# EAGLE library part ST7789 (library ME433-2021)
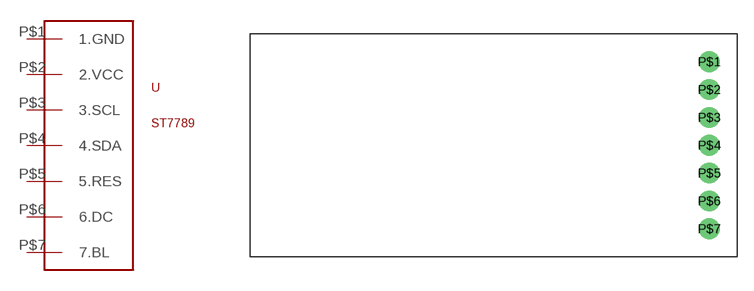
[diagram p11: symbol with the pads of ST7789; footprint ST7789]

Designator prefix -

## ST7789  [ST7789]
P$1  1.GND
P$2  2.VCC
P$3  3.SCL
P$4  4.SDA
P$5  5.RES
P$6  6.DC
P$7  7.BL

## Footprint ST7789 (pad centres in mm)
drill 1.016 pad 1.88: P$1 0,7.62; P$2 0,5.08; P$3 0,2.54; P$4 0,0; P$5 0,-2.54; P$6 0,-5.08; P$7 0,-7.62